# Altium schematic symbol library 2020-02-13_23-38-10.SchLib: 2 symbols
Pins are listed as number, name and electrical type; pins without a type are passive.

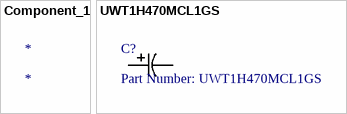
[diagram p0: symbols Component_1 to UWT1H470MCL1GS]

## Component_1
designator *

## UWT1H470MCL1GS
designator C?, comment Part Number: UWT1H470MCL1GS
No Description Available; Vendor: Nichicon; Built_By: EMA_UL_Team; Type: DEV; Manufacturer_Part_Number: UWT1H470MCL1GS; Copyright: Copyright (C) 2018 Accelerated Designs. All rights reserved; RefDes: RefDes; Value: Value
footprint PCAP_6.3x7.7-ELE
pins: 1, 2